# Altium schematic symbol library Sch_Allegro_Microsystems.SchLib: 1 symbol
Pins are listed as number, name and electrical type; pins without a type are passive.

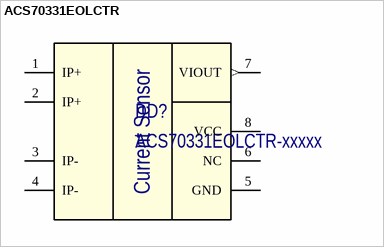
[diagram p0: symbol ACS70331EOLCTR]

## ACS70331EOLCTR
designator DD?, comment ACS70331EOLCTR-xxxxx
Manufacturer: Allegro Microsystems; Part Number: ACS70331EOLCTR-xxxxx
footprint SOIC-8 (SOIC-8 package)
pins: 1 IP+, 2 IP+, 3 IP-, 4 IP-, 5 GND (power), 6 NC, 7 VIOUT (out), 8 VCC (power)
text: Current Sensor